# Altium footprint library AZ23C4V7-E3-08.PcbLib: 1 footprints
Each footprint in its own frame and in the unit in brackets; x right, y up, seen from the top. Pads: shape width x height; smd on the part's side, far side on the other; paste and mask are expansions set on the pad; w line width, h text height; cw(c..) or ccw(c..) is an arc to the next point about the centre after c.
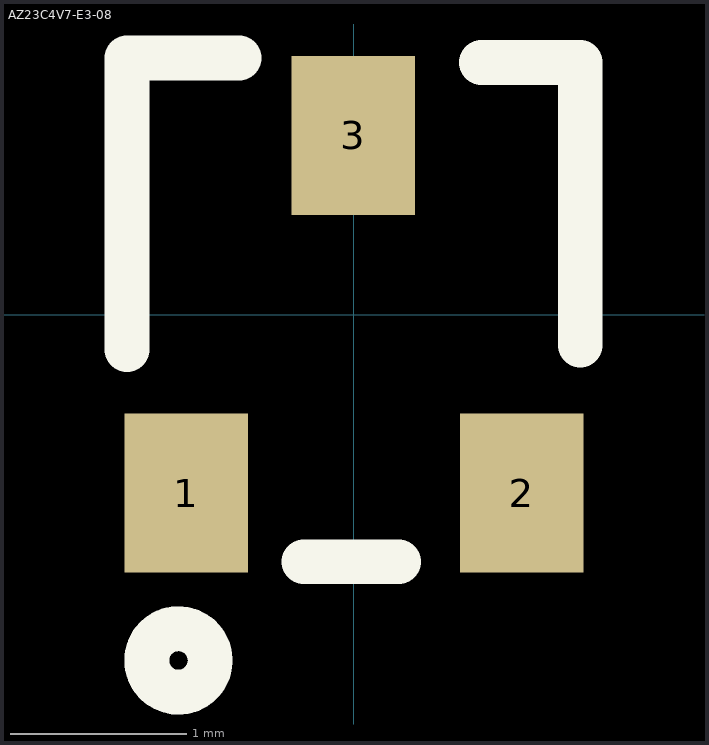
[diagram p0: the footprint, top view; thin cyan lines are the x and y axes]

## AZ23C4V7-E3-08 [mm] "300mW zener diode"
height 1.15
pads (3):
  rect 0.7x0.9 smd: 1(-0.947,-1.009) 2(0.953,-1.009) 3(-0.002,1.016)
Top Overlay:
  circle w0.254: c-0.991,-1.956 r0.18
  lines w0.254: -1.282,-0.197 -1.282,1.454 -0.647,1.454 ; -0.279,-1.397 0.254,-1.397 ; 0.724,1.429 1.283,1.429 1.283,-0.171
3D body "Package, SOT-23.STEP": height 1, standoff 0, extent -1.452,-1.3 1.448,1.3